# EAGLE library part AM29F040_SOCK (library 000001)
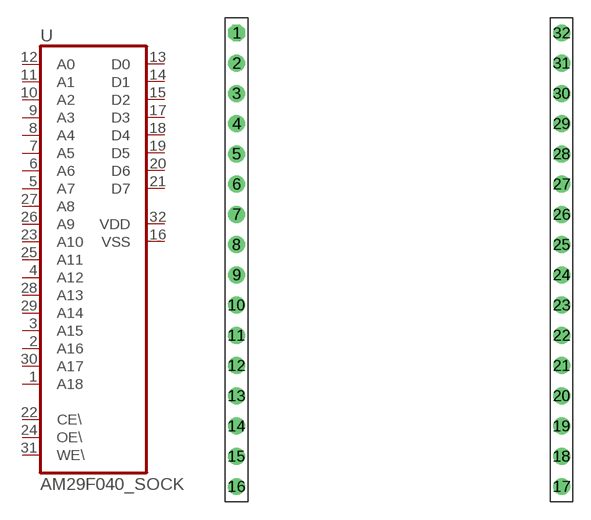
[diagram p101: symbol with the pads of EE_SW_29F040; footprint EE_SW_29F040]

Designator prefix -

## AM29F040_SOCK  [EE_SW_29F040]
1  A18  in
2  A16  in
3  A15  in
4  A12  in
5  A7  in
6  A6  in
7  A5  in
8  A4  in
9  A3  in
10  A2  in
11  A1  in
12  A0  in
13  D0  hiz
14  D1  hiz
15  D2  hiz
16  VSS  pwr
17  D3  hiz
18  D4  hiz
19  D5  hiz
20  D6  hiz
21  D7  hiz
22  CE\  in
23  A10  in
24  OE\  in
25  A11  in
26  A9  in
27  A8  in
28  A13  in
29  A14  in
30  A17  in
31  WE\  in
32  VDD  pwr

## Footprint EE_SW_29F040 (pad centres in mm)
drill 0.5 pad 1.422 octagon: 1 -13.652,27.94
drill 0.5 pad 1.422 round: 2 -13.652,25.4; 3 -13.652,22.86; 4 -13.652,20.32; 5 -13.652,17.78; 6 -13.652,15.24; 7 -13.652,12.7; 8 -13.652,10.16; 9 -13.652,7.62; 10 -13.652,5.08; 11 -13.652,2.54; 12 -13.652,0; 13 -13.652,-2.54; 14 -13.652,-5.08; 15 -13.652,-7.62; 16 -13.652,-10.16; 17 13.652,-10.16; 18 13.652,-7.62; 19 13.652,-5.08; 20 13.652,-2.54; 21 13.652,0; 22 13.652,2.54; 23 13.652,5.08; 24 13.652,7.62; 25 13.652,10.16; 26 13.652,12.7; 27 13.652,15.24; 28 13.652,17.78; 29 13.652,20.32; 30 13.652,22.86; 31 13.652,25.4; 32 13.652,27.94